# EAGLE library part APA102 (library FlashPCB_ICs)
APA102 Addressable RGB LED Datasheets: 2020 <https://www.americanbrightled.com/pdffiles/led-components/plcc/BB-2020BGR-TRB.pdf> 5050 <https://www.americanbrightled.com/pdffiles/led-components/plcc/BL-HBGR32L-3-TRB-8.pdf>
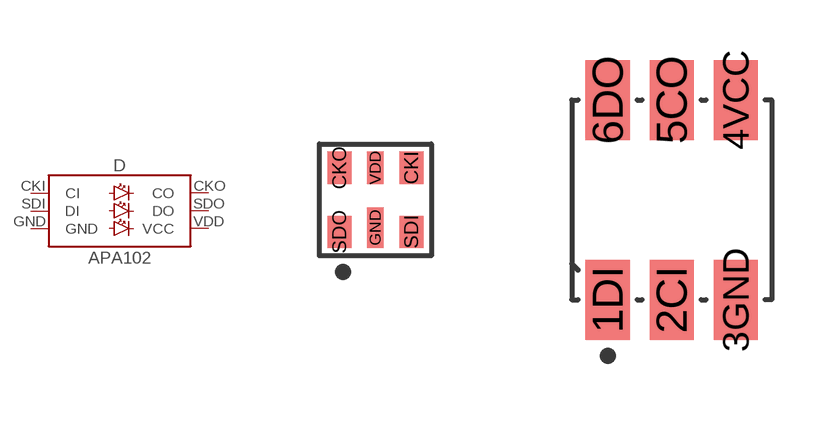
[diagram p11: symbol with the pads of APA102-2020; footprints APA102-2020, APA102-5050]

Designator prefix D

## APA102-2020 (PROD_ID: DIO-13883)  [APA102-2020]
CKI  CI
CKO  CO
GND  GND
SDI  DI
SDO  DO
VDD  VCC

## APA102-5050 (PROD_ID: DIO-13739)  [APA102-5050]
1DI  DI
2CI  CI
3GND  GND
4VCC  VCC
5CO  CO
6DO  DO

## Footprint APA102-2020 (pad centres in mm)
smd 0.6 x 0.8: CKI 0.9,0.8; CKO -0.9,0.8; SDI 0.9,-0.8; SDO -0.9,-0.8
smd 0.4 x 1: GND 0,-0.7
smd 0.4 x 0.8: VDD 0,0.8

## Footprint APA102-5050 (pad centres in mm)
smd 1.1 x 2: 1DI -1.6,-2.5; 2CI 0,-2.5; 3GND 1.6,-2.5; 4VCC 1.6,2.5; 5CO 0,2.5; 6DO -1.6,2.5